# Altium footprint library BAT_BK-18650-PC4.PcbLib: 1 footprints
Each footprint in its own frame and in the unit in brackets; x right, y up, seen from the top. Pads: shape width x height; smd on the part's side, far side on the other; paste and mask are expansions set on the pad; w line width, h text height; cw(c..) or ccw(c..) is an arc to the next point about the centre after c.
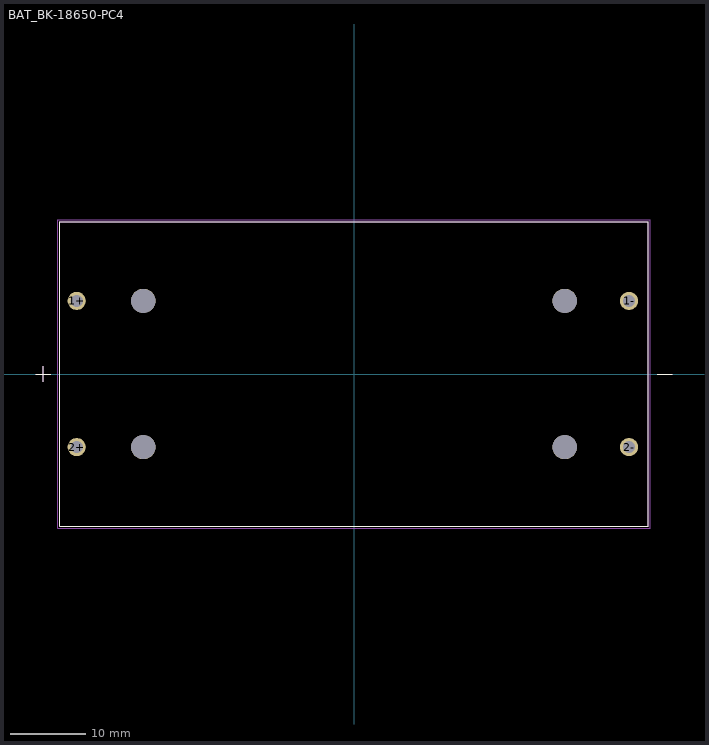
[diagram p0: the footprint, top view; thin cyan lines are the x and y axes]

## BAT_BK-18650-PC4 [mm]
pads (8):
  round 2.4 hole 1.6: 1+(-36.6,9.65) 1-(36.3,9.65) 2+(-36.6,-9.65) 2-(36.3,-9.65)
  round 3.2 hole 3.2 unplated: ""(-27.81,-9.65) ""(-27.81,9.65) ""(27.81,-9.65) ""(27.81,9.65)
Top Overlay:
  lines w0.127: -42,0 -40,0 ; -41,-1 -41,1 ; 40,0 42,0 ; -38.85,-20.105 38.85,-20.105 38.85,20.105 -38.85,20.105 -38.85,-20.105
Mechanical 13:
  lines w0.127: -42,0 -40,0 ; -41,-1 -41,1 ; 40,0 42,0 ; -38.85,-20.105 38.85,-20.105 38.85,20.105 -38.85,20.105 -38.85,-20.105
Mechanical 15:
  lines w0.05: -39.1,-20.355 39.1,-20.355 39.1,20.355 -39.1,20.355 -39.1,-20.355
3D body "BK-18650-PC4--3DModel-STEP-56544.STEP": height 22.5, standoff -2.24, extent -38.862,-20.144 38.838,20.066